# Altium schematic symbol library NEW.SchLib: 74 symbols
Pins are listed as number, name and electrical type; pins without a type are passive.

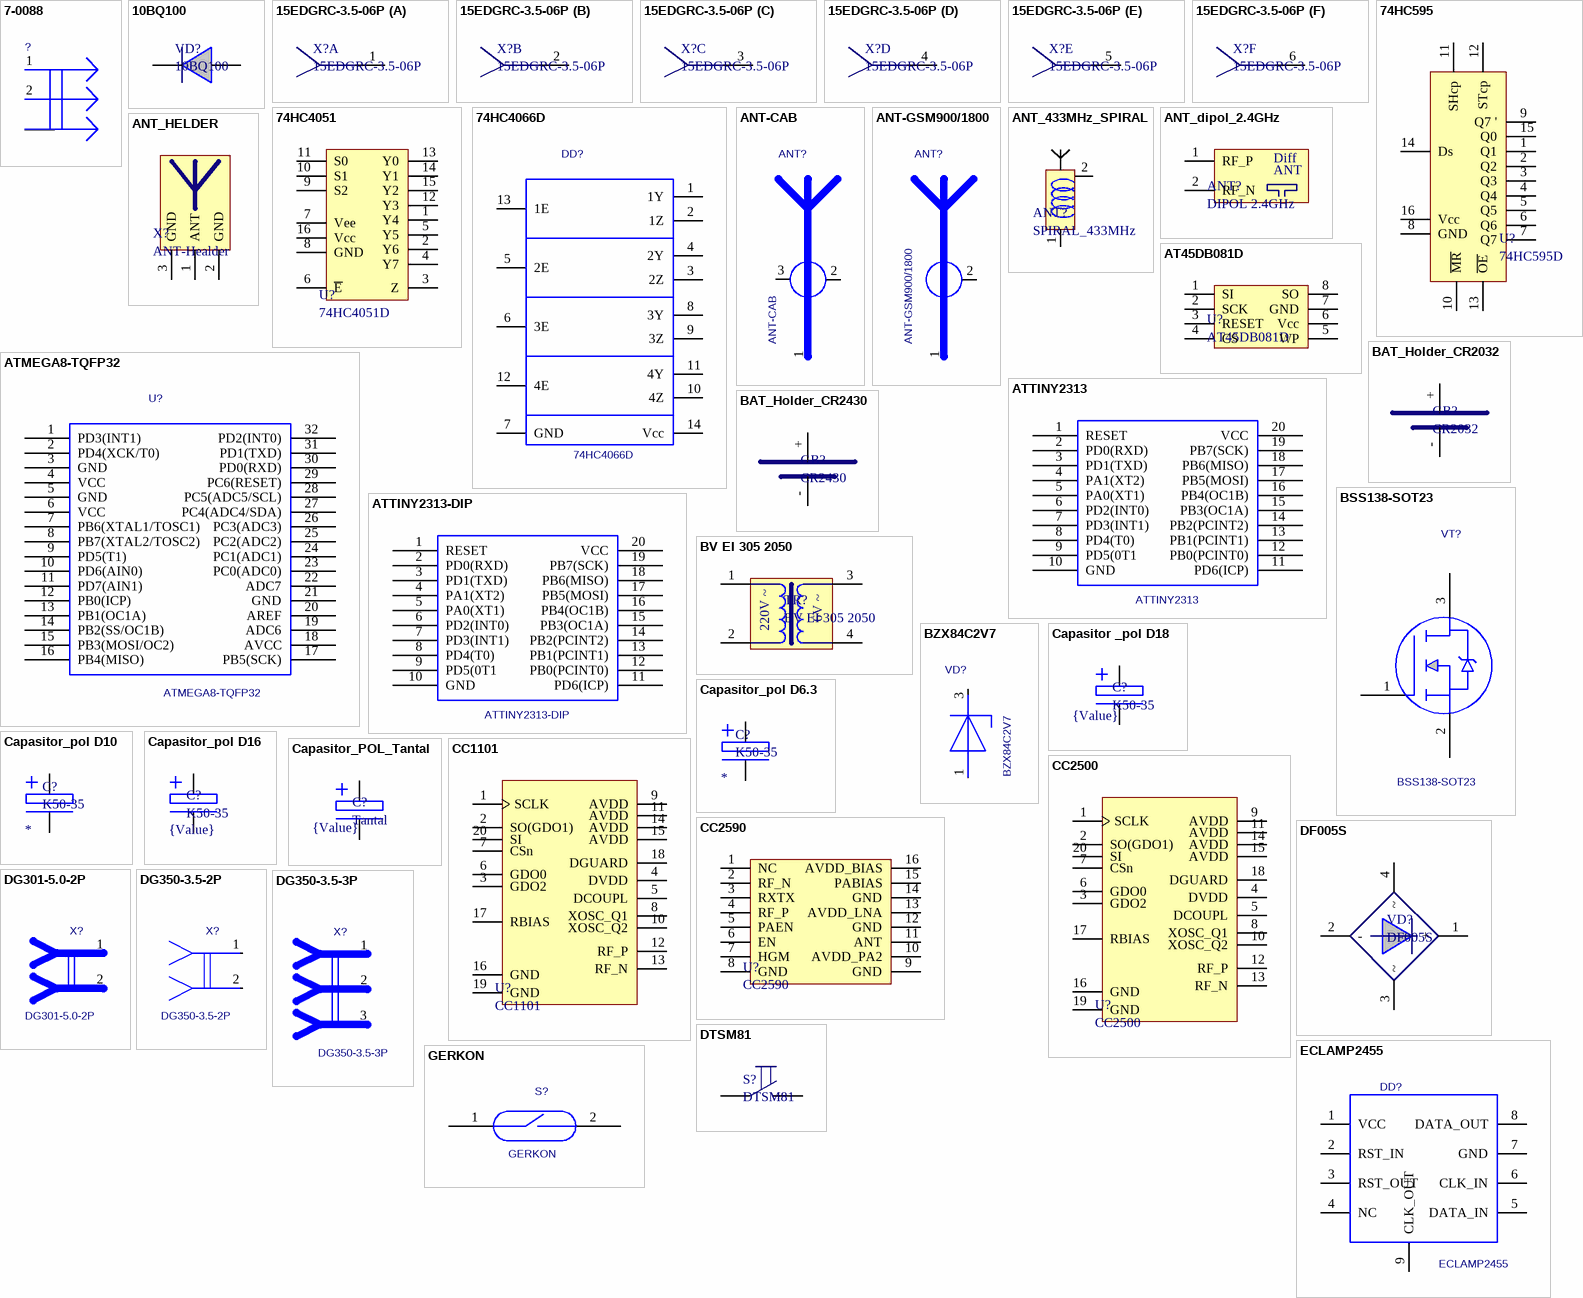
[diagram p0: symbols 7-0088 to GERKON]

## 7-0088
designator ?  (value not drawn)
Value: *
footprint 7-0088
pins: 1 I/O1, 2 I/O2, 3 0

## 10BQ100
designator VD?
footprint SMB
pins: 1, 2

## 15EDGRC-3.5-06P
designator X?
footprint 15EDGRC-3.5-06P
part A pins: 1
part B pins: 2
part C pins: 3
part D pins: 4
part E pins: 5
part F pins: 6

## 74HC595
designator U?, comment 74HC595D
footprint SO-16
pins: 1 Q1, 2 Q2, 3 Q3, 4 Q4, 5 Q5, 6 Q6, 7 Q7, 8 GND, 9 Q7 ', 10 ~{MR}, 11 SHcp, 12 STcp, 13 ~{OE}, 14 Ds, 15 Q0, 16 Vcc

## 74HC4051
designator U?, comment 74HC4051D
footprint SO-16
pins: 1 Y4, 2 Y6, 3 Z, 4 Y7, 5 Y5, 6 ~{E}, 7 Vee, 8 GND, 9 S2, 10 S1, 11 S0, 12 Y3, 13 Y0, 14 Y1, 15 Y2, 16 Vcc

## 74HC4066D
designator DD?
Value: *
footprint SO-14
pins: 1 1Y, 2 1Z, 3 2Z, 4 2Y, 5 2E, 6 3E, 7 GND, 8 3Y, 9 3Z, 10 4Z, 11 4Y, 12 4E, 13 1E, 14 Vcc

## ANT-CAB
designator ANT?
Value: *
footprint ANT-CAB
pins: 1, 2, 3

## ANT-GSM900/1800
designator ANT?
Value: *
footprint ANT-GSM
pins: 1, 2

## ANT_433MHz_SPIRAL
designator ANT?, comment SPIRAL_433MHz
footprint ANT_433MHz_SPIRAL
pins: 1, 2

## ANT_dipol_2.4GHz
designator ANT?, comment DIPOL 2.4GHz
footprint ANT_Dipol_2.4GHz
pins: 1 RF_P, 2 RF_N
text: Diff; ANT

## ANT_HELDER
designator X?, comment ANT-Healder
footprint ANT-Healder
pins: 1 ANT, 2 GND, 3 GND

## AT45DB081D
designator U?
footprint SOIC-8
pins: 1 SI, 2 SCK, 3 RESET, 4 CS, 5 WP, 6 Vcc, 7 GND, 8 SO

## ATMEGA8-TQFP32
designator U?
Value: *
footprint TQFP 32
pins: 1 PD3(INT1), 2 PD4(XCK/T0), 3 GND, 4 VCC, 5 GND, 6 VCC, 7 PB6(XTAL1/TOSC1), 8 PB7(XTAL2/TOSC2), 9 PD5(T1), 10 PD6(AIN0), 11 PD7(AIN1), 12 PB0(ICP), 13 PB1(OC1A), 14 PB2(SS/OC1B), 15 PB3(MOSI/OC2), 16 PB4(MISO), 17 PB5(SCK), 18 AVCC, 19 ADC6, 20 AREF, 21 GND, 22 ADC7, 23 PC0(ADC0), 24 PC1(ADC1), 25 PC2(ADC2), 26 PC3(ADC3), 27 PC4(ADC4/SDA), 28 PC5(ADC5/SCL), 29 PC6(RESET), 30 PD0(RXD), 31 PD1(TXD), 32 PD2(INT0)

## ATTINY2313
designator U?
Value: *
footprint ATTINY2313
pins: 1 RESET, 2 PD0(RXD), 3 PD1(TXD), 4 PA1(XT2), 5 PA0(XT1), 6 PD2(INT0), 7 PD3(INT1), 8 PD4(T0), 9 PD5(0T1, 10 GND, 11 PD6(ICP), 12 PB0(PCINT0), 13 PB1(PCINT1), 14 PB2(PCINT2), 15 PB3(OC1A), 16 PB4(OC1B), 17 PB5(MOSI), 18 PB6(MISO), 19 PB7(SCK), 20 VCC

## ATTINY2313-DIP
designator U?
Value: *
footprint ATTINY2313-DIP
pins: 1 RESET, 2 PD0(RXD), 3 PD1(TXD), 4 PA1(XT2), 5 PA0(XT1), 6 PD2(INT0), 7 PD3(INT1), 8 PD4(T0), 9 PD5(0T1, 10 GND, 11 PD6(ICP), 12 PB0(PCINT0), 13 PB1(PCINT1), 14 PB2(PCINT2), 15 PB3(OC1A), 16 PB4(OC1B), 17 PB5(MOSI), 18 PB6(MISO), 19 PB7(SCK), 20 VCC

## BAT_Holder_CR2032
designator GB?, comment CR2032
BTH-W39-20
footprint BAT_Holder_CR2032 (BTH-W39-20)
pins: +, -

## BAT_Holder_CR2430
designator GB?, comment CR2430
KEYS3006
footprint BAT_HOLDER (KEYS3006)
pins: +, -

## BSS138-SOT23
designator VT?
Value: *
footprint SOT23
pins: 1 Gate, 2 Source, 3 Drain

## BV EI 305 2050
designator TR?
footprint BV EI 305 2050
pins: 1, 2, 3, 4
text: 6V ~; 220V ~

## BZX84C2V7
designator VD?
Value: *
footprint SOT23
pins: 1, 2 hidden, 3 2

## Capasitor _pol D18
designator C?, comment K50-35
footprint CAP_POL_D18-Horizontal
pins: 1 PLUS, 2 MINUS
text: {Value}

## Capasitor_pol D6.3
designator C?, comment K50-35
Value: *
footprint CAP_POL_D6.3
footprint CAP_POL_D6.3-Horizontal
pins: 1 PLUS, 2 MINUS

## Capasitor_pol D10
designator C?, comment K50-35
Value: *
footprint CAP_POL_D10
footprint CAP_POL_D10-horizontal
pins: 1 PLUS, 2 MINUS

## Capasitor_pol D16
designator C?, comment K50-35  value {Value}
footprint CAP_POL_D16
pins: 1 PLUS, 2 MINUS

## Capasitor_POL_Tantal
designator C?, comment Tantal  value {Value}
SMD_D
footprint SMD_D
pins: 1 PLUS, 2 MINUS

## CC1101
designator U?
footprint VQFN20 (QFN, 20-Leads, Body 4,2x4,2mm (max), Pitch 0,50mm, IPC Low Density)
pins: 1 SCLK, 2 SO(GDO1), 3 GDO2, 4 DVDD, 5 DCOUPL, 6 GDO0, 7 CSn, 8 XOSC_Q1, 9 AVDD, 10 XOSC_Q2, 11 AVDD, 12 RF_P, 13 RF_N, 14 AVDD, 15 AVDD, 16 GND, 17 RBIAS, 18 DGUARD, 19 GND, 20 SI

## CC2500
designator U?
footprint VQFN20 (QFN, 20-Leads, Body 4,2x4,2mm (max), Pitch 0,50mm, IPC Low Density)
pins: 1 SCLK, 2 SO(GDO1), 3 GDO2, 4 DVDD, 5 DCOUPL, 6 GDO0, 7 CSn, 8 XOSC_Q1, 9 AVDD, 10 XOSC_Q2, 11 AVDD, 12 RF_P, 13 RF_N, 14 AVDD, 15 AVDD, 16 GND, 17 RBIAS, 18 DGUARD, 19 GND, 20 SI

## CC2590
designator U?
footprint VQFN16
pins: 1 NC, 2 RF_N, 3 RXTX, 4 RF_P, 5 PAEN, 6 EN, 7 HGM, 8 GND, 9 GND, 10 AVDD_PA2, 11 ANT, 12 GND, 13 AVDD_LNA, 14 GND, 15 PABIAS, 16 AVDD_BIAS

## DF005S
designator VD?
footprint DF005S
pins: 1 +, 2 -, 3 ~, 4 ~

## DG301-5.0-2P
designator X?
Value: *
footprint DG301-5.0-2P
pins: 1, 2

## DG350-3.5-2P
designator X?
Value: *
footprint DG350-3.5-2P
pins: 1, 2

## DG350-3.5-3P
designator X?
Value: *
footprint DG350-3.5-3P
pins: 1, 2, 3

## DTSM81
designator S?
footprint DTSM81
pins: 1, 2

## ECLAMP2455
designator DD?
Value: *
footprint ECLAMP2455
pins: 1 VCC, 2 RST_IN, 3 RST_OUT, 4 NC, 5 DATA_IN, 6 CLK_IN, 7 GND, 8 DATA_OUT, 9 CLK_OUT

## GERKON
designator S?
Value: *
footprint GERKON
pins: 1, 2

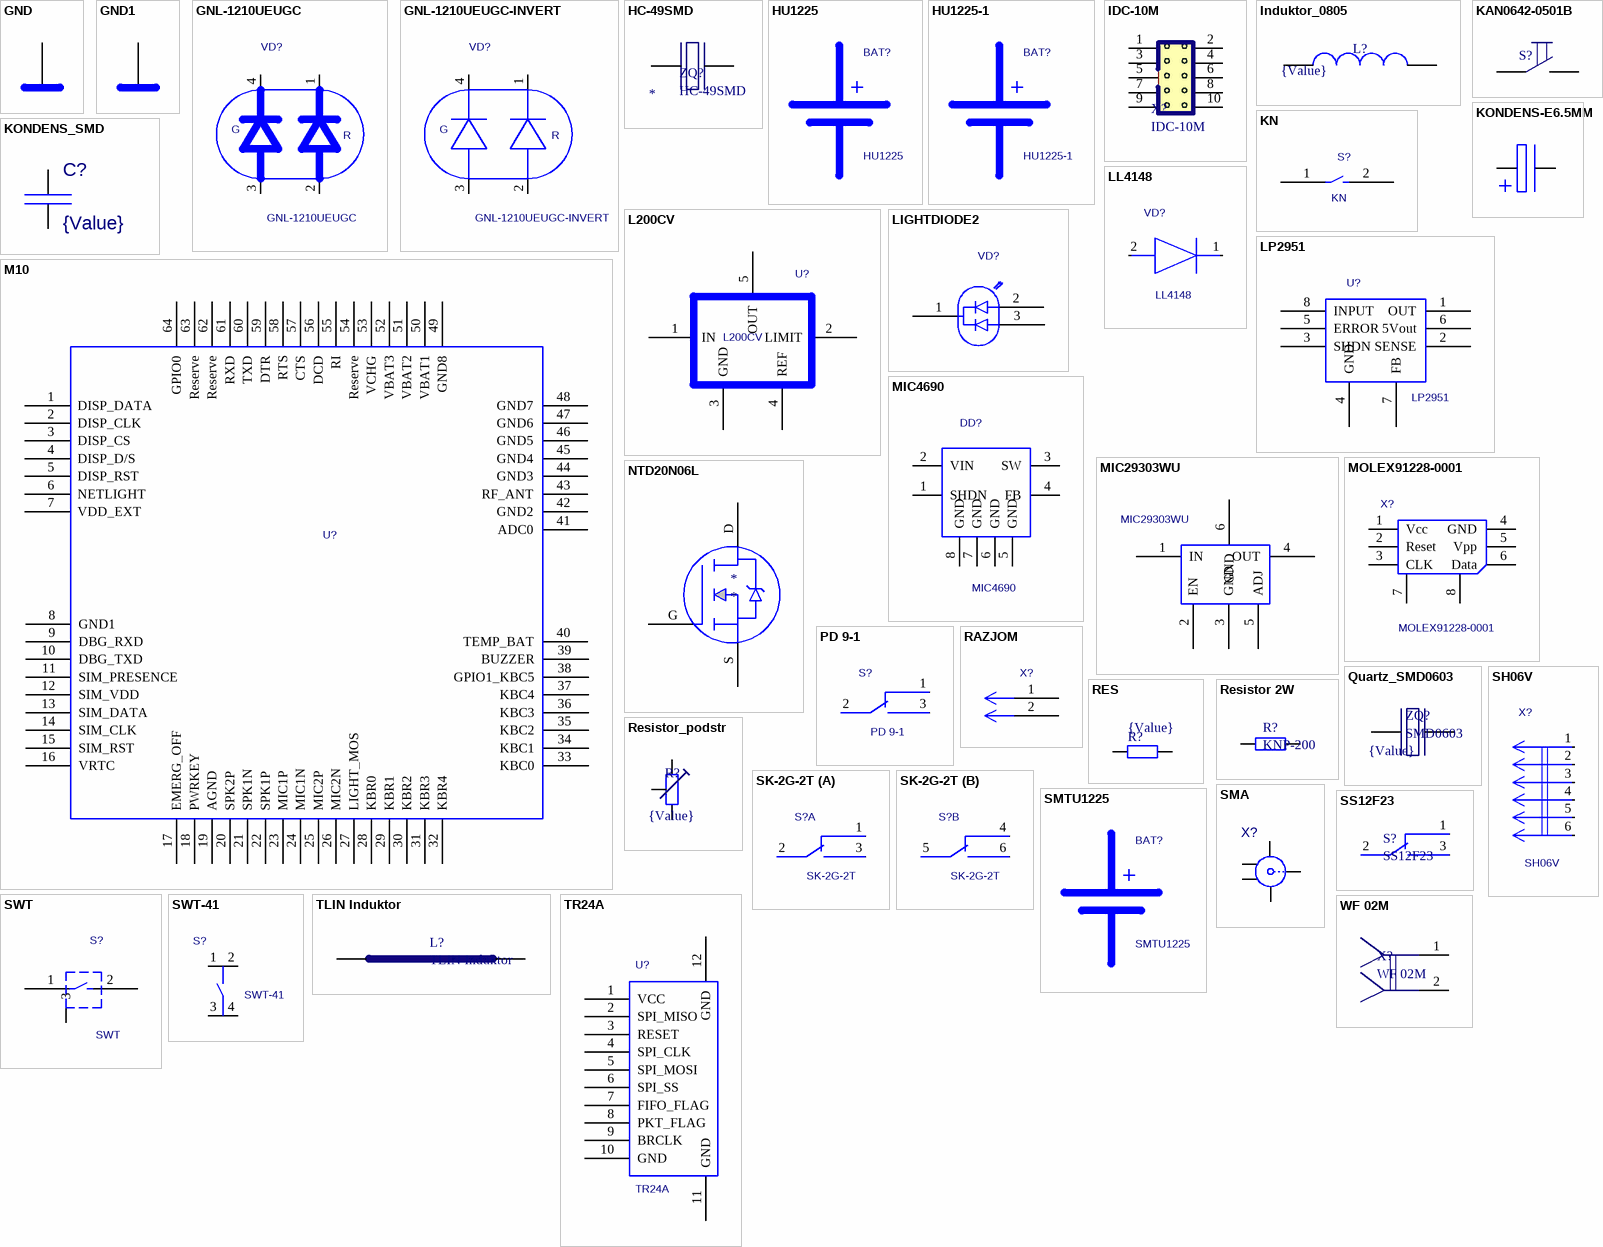
[diagram p1: symbols GND to WF 02M]

## GND
designator PWR?  (value not drawn)
Value: *
pins: 1 GND (power)

## GND1
designator PWR?  (value not drawn)
Value: *
pins: 1 GND1 (power)

## GNL-1210UEUGC
designator VD?
Value: *
footprint GNL-1210UEUGC
pins: 1, 2, 3, 4
text: G; R

## GNL-1210UEUGC-INVERT
designator VD?
Value: *
footprint GNL-1210UEUGC-INVERT
pins: 1, 2, 3, 4
text: G; R

## HC-49SMD
designator ZQ?
Value: *
footprint HC-49SMD
pins: 1, 2

## HU1225
designator BAT?
Value: *
footprint HU1225
pins: 1 +, 2 -

## HU1225-1
designator BAT?
Value: *
footprint HU1225-1
pins: 1 +, 2 -

## IDC-10M
designator X?
footprint IDC-10M
pins: 1, 2, 3, 4, 5, 6, 7, 8, 9, 10

## Induktor_0805
designator L?, comment value {Value}  (hidden comment: SMD_0805)
footprint 6-0805_M (Chip Resistor, Body 2.0x1.2mm, IPC Low Density)
pins: 1, 2

## KAN0642-0501B
designator S?  (value not drawn)
footprint KAN0642-0501B
pins: 1, 2

## KN
designator S?
Value: *
footprint KN
pins: 1, 2

## KONDENS-E6.5MM
designator C?  (value not drawn)
Value: {Value}
footprint KONDENS-E6.5_KONDENS-E6.5MM(Primary)
footprint CAP 5mm Horizontal
pins: 1 PLUS, 2 MINUS

## KONDENS_SMD
designator C?  value {Value}  (hidden comment: KONDENS_SMD)
footprint C0805
pins: 1 A, 2 B

## L200CV
designator U?
Value: *
footprint L200CV
pins: 1 IN, 2 LIMIT, 3 GND, 4 REF, 5 OUT

## LIGHTDIODE2
designator VD?  (value not drawn)
Value: *
footprint LIGHTDIODE2
pins: 1, 2, 3

## LL4148
designator VD?
Value: *
footprint MINI MELF
pins: 1 0, 2 1

## LP2951
designator U?
Value: *
footprint SOIC-8
pins: 1 OUT, 2 SENSE, 3 SHDN, 4 GND, 5 ERROR, 6 5Vout, 7 FB, 8 INPUT

## M10
designator U?  (value not drawn)
Value: *
footprint M10
pins: 1 DISP_DATA, 2 DISP_CLK, 3 DISP_CS, 4 DISP_D/S, 5 DISP_RST, 6 NETLIGHT, 7 VDD_EXT, 8 GND1, 9 DBG_RXD, 10 DBG_TXD, 11 SIM_PRESENCE, 12 SIM_VDD, 13 SIM_DATA, 14 SIM_CLK, 15 SIM_RST, 16 VRTC, 17 EMERG_OFF, 18 PWRKEY, 19 AGND, 20 SPK2P, 21 SPK1N, 22 SPK1P, 23 MIC1P, 24 MIC1N, 25 MIC2P, 26 MIC2N, 27 LIGHT_MOS, 28 KBR0, 29 KBR1, 30 KBR2, 31 KBR3, 32 KBR4, 33 KBC0, 34 KBC1, 35 KBC2, 36 KBC3, 37 KBC4, 38 GPIO1_KBC5, 39 BUZZER, 40 TEMP_BAT, 41 ADC0, 42 GND2, 43 RF_ANT, 44 GND3, 45 GND4, 46 GND5, 47 GND6, 48 GND7, 49 GND8, 50 VBAT1, 51 VBAT2, 52 VBAT3, 53 VCHG, 54 Reserve, 55 RI, 56 DCD, 57 CTS, 58 RTS, 59 DTR, 60 TXD, 61 RXD, 62 Reserve, 63 Reserve, 64 GPIO0

## MIC4690
designator DD?
Value: *
footprint SOP-8
pins: 1 SHDN, 2 VIN, 3 SW, 4 FB, 5 GND, 6 GND, 7 GND, 8 GND

## MIC29303WU
designator U?
Value: *
footprint MIC29303WU
pins: 1 IN, 2 EN, 3 GND, 4 OUT, 5 ADJ, 6 GND

## MOLEX91228-0001
designator X?
Value: *
footprint MOLEX91228-0001
pins: 1 Vcc, 2 Reset, 3 CLK, 4 GND, 5 Vpp, 6 Data, 7 0, 8 1

## NTD20N06L
designator *
pins: D Drain, G Gate, S Source

## PD 9-1
designator S?
Value: *
footprint PD 9-1
pins: 1, 2, 3

## Quartz_SMD0603
designator ZQ?, comment SMD0603  value {Value}
footprint Quartz_SMD0603
pins: 1, 3

## RAZJOM
designator X?  (value not drawn)
Value: *
footprint KN
pins: 1, 2

## RES
designator R?  value {Value}  (hidden comment: RES)
Resistor
footprint C0805
pins: 1, 2

## Resistor 2W
designator R?, comment KNP-200
footprint Resistor KNP-200
pins: 1, 2

## Resistor_podstr
designator R?, comment value {Value}  (hidden comment: CA6V)
footprint CA6V
pins: 1, 2, 3

## SH06V
designator X?
Value: *
footprint SH06V
pins: 1, 2, 3, 4, 5, 6, 7 GND (power) hidden, 8 GND (power) hidden

## SK-2G-2T
designator S?
Value: *
footprint SK-2G-2T
part A pins: 1, 2, 3
part B pins: 4 1, 5 2, 6 3

## SMA
designator X?  (value not drawn)
LatestRevisionDate: 17-Jul-2002; Publisher: Altium Limited; LatestRevisionNote: Re-released for DXP Platform.; Value: *
footprint SMA
pins: 1, 2, 3, 4, 5

## SMTU1225
designator BAT?
Value: *
footprint SMTU1225
pins: 1 +, 2 -

## SS12F23
designator S?
footprint SS12F23
pins: 1, 2, 3

## SWT
designator S?
Value: *
footprint SWT
pins: 1, 2, 3

## SWT-41
designator S?
Value: *
footprint SWT-41
pins: 1, 2, 3, 4

## TLIN Induktor
designator L?  (net tie, no BOM)
pins: 0, 1

## TR24A
designator U?
Value: *
footprint TR24A
pins: 1 VCC, 2 SPI_MISO, 3 RESET, 4 SPI_CLK, 5 SPI_MOSI, 6 SPI_SS, 7 FIFO_FLAG, 8 PKT_FLAG, 9 BRCLK, 10 GND, 11 GND, 12 GND

## WF 02M
designator X?
footprint WF 02M
pins: 1, 2

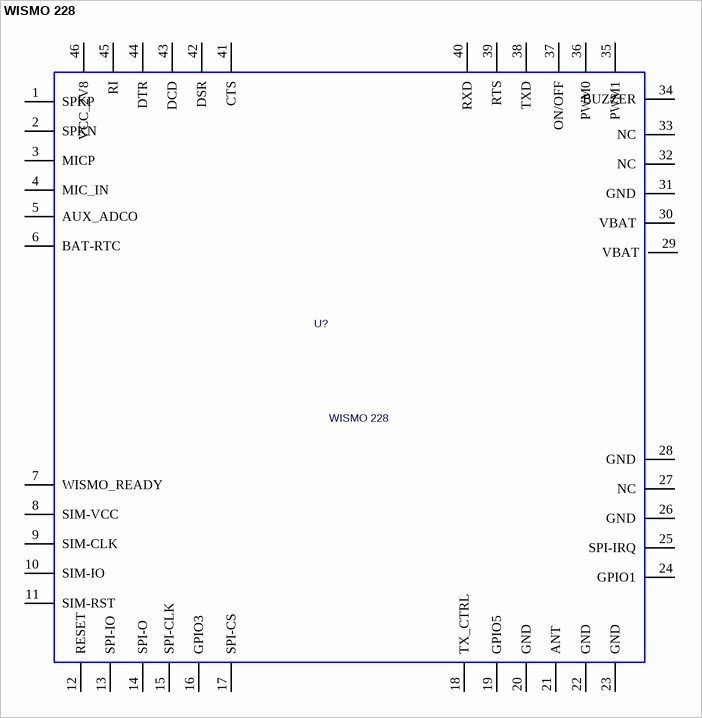
[diagram p2: symbol WISMO 228]

## WISMO 228
designator U?
Value: *
footprint WISMO
pins: 1 SPKP, 2 SPKN, 3 MICP, 4 MIC_IN, 5 AUX_ADCO, 6 BAT-RTC, 7 WISMO_READY, 8 SIM-VCC, 9 SIM-CLK, 10 SIM-IO, 11 SIM-RST, 12 RESET, 13 SPI-IO, 14 SPI-O, 15 SPI-CLK, 16 GPIO3, 17 SPI-CS, 18 TX_CTRL, 19 GPIO5, 20 GND, 21 ANT, 22 GND, 23 GND, 24 GPIO1, 25 SPI-IRQ, 26 GND, 27 NC, 28 GND, 29 VBAT, 30 VBAT, 31 GND, 32 NC, 33 NC, 34 BUZZER, 35 PWM1, 36 PWM0, 37 ON/OFF, 38 TXD, 39 RTS, 40 RXD, 41 CTS, 42 DSR, 43 DCD, 44 DTR, 45 RI, 46 VCC_2V8